# Altium schematic symbol library SCH - DRIVER - LED - TI TPS92512DGQ.SchLib: 1 symbol
Pins are listed as number, name and electrical type; pins without a type are passive.

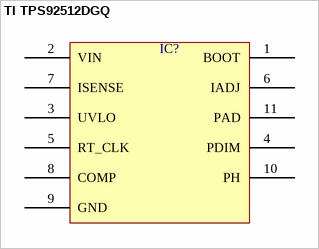
[diagram p0: symbol TI TPS92512DGQ]

## TI TPS92512DGQ
designator IC?  (value not drawn)
pins: 1 BOOT, 2 VIN, 3 UVLO, 4 PDIM, 5 RT_CLK, 6 IADJ, 7 ISENSE, 8 COMP, 9 GND, 10 PH, 11 PAD